# EAGLE library part 6510-1 (library commodore)
The famous 6510 CPU. There are some differences between the 6510, 6510-1 and the 6510-2. The -1 and -2 versions have a slightly changed pinout and 2 IO-bits more than the 6510!
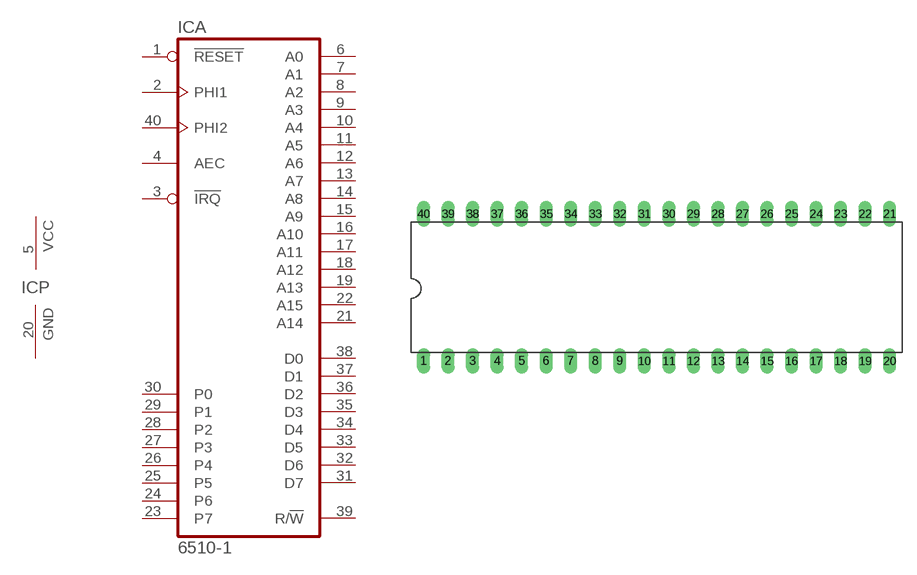
[diagram p9: symbol with the pads of DIL40; footprint DIL40]

Designator prefix IC; gates A=6510-1 P=PWR-GND

## 6510-1  [DIL40]
1  A:!RESET  in
2  A:PHI1  in
3  A:!IRQ  in
4  A:AEC  in
5  P:VCC  pwr
6  A:A0  hiz
7  A:A1  hiz
8  A:A2  hiz
9  A:A3  hiz
10  A:A4  hiz
11  A:A5  hiz
12  A:A6  hiz
13  A:A7  hiz
14  A:A8  hiz
15  A:A9  hiz
16  A:A10  hiz
17  A:A11  hiz
18  A:A12  hiz
19  A:A13  hiz
20  P:GND  pwr
21  A:A14  hiz
22  A:A15  hiz
23  A:P7
24  A:P6
25  A:P5
26  A:P4
27  A:P3
28  A:P2
29  A:P1
30  A:P0
31  A:D7
32  A:D6
33  A:D5
34  A:D4
35  A:D3
36  A:D2
37  A:D1
38  A:D0
39  A:R/!W  hiz
40  A:PHI2  in

## Footprint DIL40 (pad centres in mm)
Dual In Line Package
drill 0.813 long: 1 -24.13,-7.62; 2 -21.59,-7.62; 3 -19.05,-7.62; 4 -16.51,-7.62; 5 -13.97,-7.62; 6 -11.43,-7.62; 7 -8.89,-7.62; 8 -6.35,-7.62; 9 -3.81,-7.62; 10 -1.27,-7.62; 11 1.27,-7.62; 12 3.81,-7.62; 13 6.35,-7.62; 14 8.89,-7.62; 15 11.43,-7.62; 16 13.97,-7.62; 17 16.51,-7.62; 18 19.05,-7.62; 19 21.59,-7.62; 20 24.13,-7.62; 21 24.13,7.62; 22 21.59,7.62; 23 19.05,7.62; 24 16.51,7.62; 25 13.97,7.62; 26 11.43,7.62; 27 8.89,7.62; 28 6.35,7.62; 29 3.81,7.62; 30 1.27,7.62; 31 -1.27,7.62; 32 -3.81,7.62; 33 -6.35,7.62; 34 -8.89,7.62; 35 -11.43,7.62; 36 -13.97,7.62; 37 -16.51,7.62; 38 -19.05,7.62; 39 -21.59,7.62; 40 -24.13,7.62